# EAGLE library part ADAFRUIT_BLUEFRUIT_LE (library m_module)
Adafruit Bluefruit LE UART Friend Vertical installation Requires 1x Samtec TSW-108-08-T-S-RA <https://octopart.com/search?q=TSW-108-08-T-S-RA> 8-pin right angle connector or equivalent. Product page: https://www.adafruit.com/product/2479 Octopart Search <https://octopart.com/search?q=adafruit 2479>
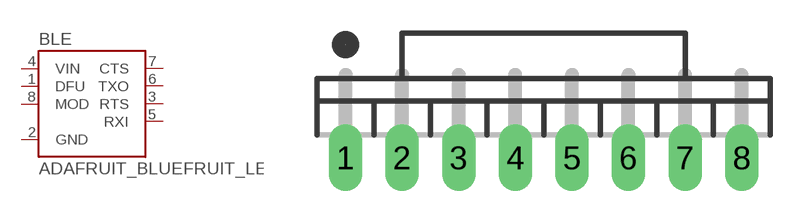
[diagram p8: symbol with the pads of BLUEFRUIT_8PIN_VERTICAL; footprint BLUEFRUIT_8PIN_VERTICAL]

Designator prefix BLE

## ADAFRUIT_BLUEFRUIT_LE (MANUF: Adafruit; PARTNUM: Adafruit 2479; VALUE: Bluefruit LE)  [BLUEFRUIT_8PIN_VERTICAL]
1  DFU  pas
2  GND  pas
3  RTS  pas
4  VIN  pas
5  RXI  pas
6  TXO  pas
7  CTS  pas
8  MOD  pas

## Footprint BLUEFRUIT_8PIN_VERTICAL (pad centres in mm)
Adafruit Bluefruit LE UART Friend with 8-pin 0.1" Connector, Vertical Requires 1x Samtec TSW-108-08-T-S-RA <https://octopart.com/search?q=TSW-108-08-T-S-RA> 8-pin right angle connector or equivalent.
drill 1 long: 1 -8.89,0; 2 -6.35,0; 3 -3.81,0; 4 -1.27,0; 5 1.27,0; 6 3.81,0; 7 6.35,0; 8 8.89,0